# Altium footprint library DS_Motor.PcbLib: 8 footprints
Each footprint in its own frame and in the unit in brackets; x right, y up, seen from the top. Pads: shape width x height; smd on the part's side, far side on the other; paste and mask are expansions set on the pad; w line width, h text height; cw(c..) or ccw(c..) is an arc to the next point about the centre after c.
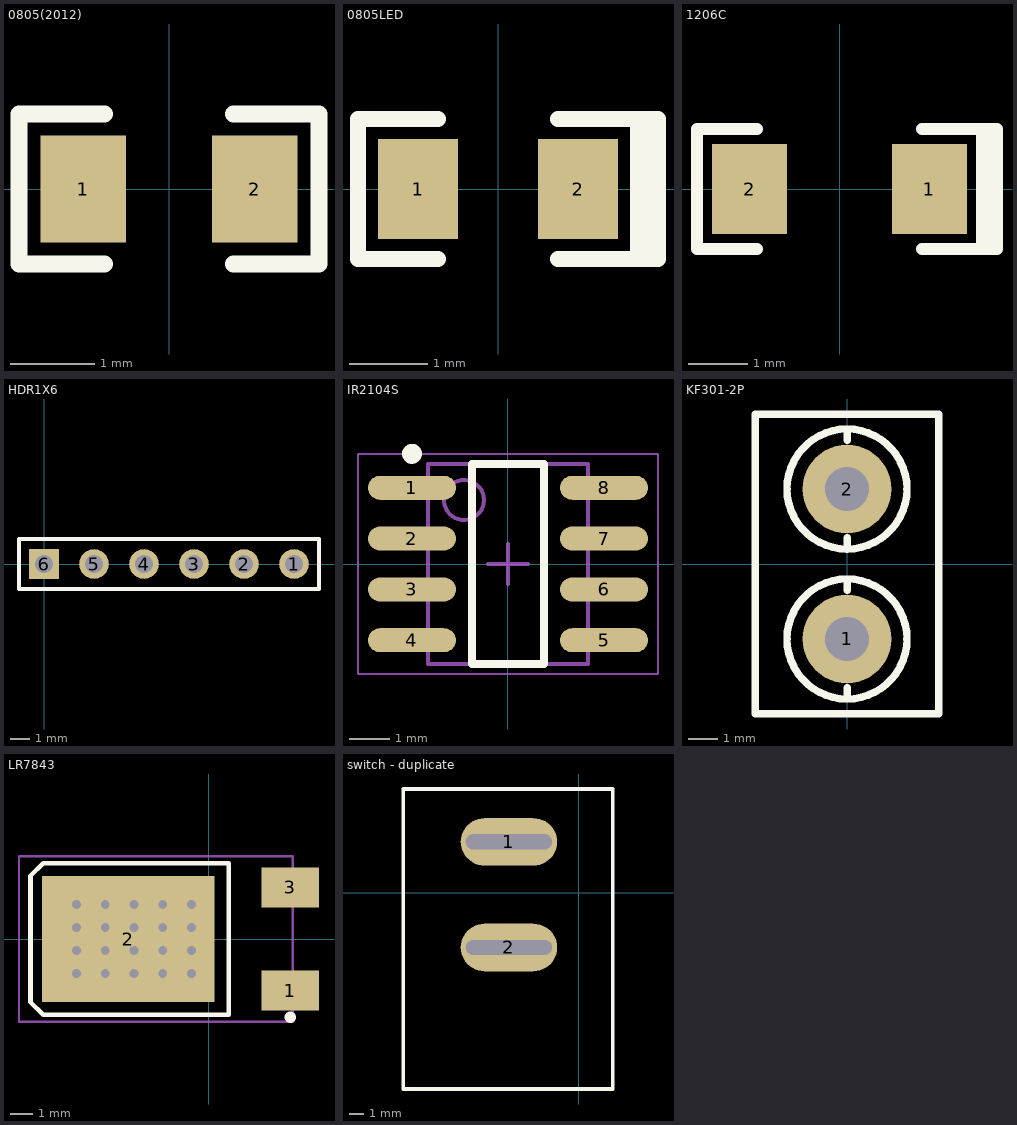
[diagram p0: the footprints below, top view; thin cyan lines are the x and y axes]

## 0805(2012) [mil]
pads (2):
  rect 40x50 smd: 1(-40,0) 2(40,0)
Top Overlay:
  lines w7.87: -70,-35 -30,-35 ; -70,35 -30,35 ; 30,-35 70,-35 ; 30,35 70,35
  lines w8: -70,-35 -70,35 ; 70,-35 70,35

## 0805LED [mil]
pads (2):
  rect 40x50 smd: 1(-40,0) 2(40,0)
Top Overlay:
  lines w7.87: -70,-35 -30,-35 ; -70,35 -30,35 ; 30,-35 80,-35 ; 30,35 80,35
  lines w8: -70,-35 -70,35 ; 70,-35 70,35 ; 75,-35 75,35 ; 80,-35 80,35

## 1206C [mil]
pads (2):
  rect 50x60 smd: 1(60,0) 2(-60,0)
Top Overlay:
  lines w7.87: -95,-40 -55,-40 ; -95,40 -55,40 ; 55,-40 105,-40 ; 55,40 105,40
  lines w8: -95,-40 -95,40 ; 95,-40 95,40 ; 100,-40 100,40 ; 105,-40 105,40

## HDR1X6 [mm] "Connector; Header; 6 Position"
pads (6):
  round 1.5 hole 0.9: 1(12.7,0) 2(10.16,0) 3(7.62,0) 4(5.08,0) 5(2.54,0)
  rect 1.5x1.5 hole 0.9: 6(0,0)
Top Overlay:
  lines w0.2: -1.27,-1.27 13.97,-1.27 13.97,1.27 -1.27,1.27 -1.27,-1.27

## IR2104S [mm]
height 1.55
pads (8):
  oval 2.2x0.6 smd: 1(-2.4,1.905) 2(-2.4,0.635) 3(-2.4,-0.635) 4(-2.4,-1.905) 5(2.4,-1.905) 6(2.4,-0.635) 7(2.4,0.635) 8(2.4,1.905)
Top Overlay:
  circle w0.25: c-2.4,2.755 r0.125
  lines w0.2: -0.9,-2.5 -0.9,2.5 0.9,2.5 0.9,-2.5 -0.9,-2.5
Mechanical 13:
  circle w0.1: c-1.1,1.6 r0.5
  lines w0.1: -2,-2.5 -2,2.5 2,2.5 2,-2.5 -2,-2.5
Mechanical 15:
  lines w0.05: -3.75,-2.75 -3.75,2.75 3.75,2.75 3.75,-2.75 -3.75,-2.75
  lines w0.1: -0.5,0 0.5,0 ; 0,-0.5 0,0.5
3D body: height 1.55, standoff 0.22, extent -2,-2.5 2,2.5

## KF301-2P [mm]
pads (2):
  round 3 hole 1.5: 1(0,-2.54) 2(0,2.54)
Top Overlay:
  circle w0.254: c0,2.54 r2.032
  circle w0.254: c0,-2.54 r2.032
  lines w0.254: 0,-4.572 0,-4.191 ; 0,-0.889 0,-0.508 ; 0,0.508 0,0.889 ; 0,4.191 0,4.572 ; -3.1,-5.08 -3.1,5.08 3.1,5.08 3.1,-5.08 -3.1,-5.08

## LR7843 [mm]
pads (3):
  rect 2.54x1.778 smd: 1(3.6,-2.28) 3(3.6,2.28)
  rect 7.6x5.55 smd: 2(-3.556,0)
via -5.842,1.524 diameter 0.762 hole 0.381
via -5.842,0.508 diameter 0.762 hole 0.381
via -5.842,-0.508 diameter 0.762 hole 0.381
via -4.572,1.524 diameter 0.762 hole 0.381
via -4.572,0.508 diameter 0.762 hole 0.381
via -4.572,-0.508 diameter 0.762 hole 0.381
via -4.572,-1.524 diameter 0.762 hole 0.381
via -3.302,1.524 diameter 0.762 hole 0.381
via -3.302,0.508 diameter 0.762 hole 0.381
via -3.302,-0.508 diameter 0.762 hole 0.381
via -2.032,1.524 diameter 0.762 hole 0.381
via -2.032,0.508 diameter 0.762 hole 0.381
via -2.032,-1.524 diameter 0.762 hole 0.381
via -2.032,-0.508 diameter 0.762 hole 0.381
via -3.302,-1.524 diameter 0.762 hole 0.381
via -5.842,-1.524 diameter 0.762 hole 0.381
via -0.762,0.508 diameter 0.762 hole 0.381
via -0.762,1.524 diameter 0.762 hole 0.381
via -0.762,-0.508 diameter 0.762 hole 0.381
via -0.762,-1.524 diameter 0.762 hole 0.381
Top Overlay:
  circle w0.25: c3.6,-3.455 r0.125
  lines w0.2: -7.874,-2.794 -7.318,-3.35 0.889,-3.35 0.889,3.35 -7.318,3.35 -7.874,2.794 -7.874,-2.794
Mechanical 15:
  lines w0.1: -1.85,0 -0.85,0 ; -1.35,-0.5 -1.35,0.5 ; -8.382,-3.65 3.705,-3.65 3.705,3.65 -8.382,3.65 -8.382,-3.65

## switch - duplicate [mm]
pads (2):
  oval 6.5x3.2 hole 1 slot 5.8 at 0 deg: 1(-4.699,3.429) 2(-4.699,-3.683)
Top Overlay:
  lines w0.254: -11.811,-13.208 2.286,-13.208 2.286,6.985 -11.811,6.985 -11.811,-13.208